# Altium schematic symbol library SZMMSZ5245BT1G.SchLib: 1 symbol
Pins are listed as number, name and electrical type; pins without a type are passive.

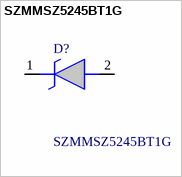
[diagram p0: symbol SZMMSZ5245BT1G]

## SZMMSZ5245BT1G
designator D?
Zener Diodes ZEN REG 0.5W 15V; Manufacturer_Name: onsemi; Geometry.Height: 1.35mm; Manufacturer_Part_Number: SZMMSZ5245BT1G; Arrow Part Number: SZMMSZ5245BT1G; Arrow Price/Stock: https://www.arrow.com/en/products/szmmsz5245bt1g/on-semiconductor; Datasheet Link: http://www.onsemi.com/pub/Collateral/MMSZ5221BT1-D.PDF
footprint SOD3716X135N
pins: 1 K, 2 A